# Altium footprint library Dual-In-Line Package.PcbLib: 124 footprints (part 4 of 8)
Each footprint in its own frame and in the unit in brackets; x right, y up, seen from the top. Pads: shape width x height; smd on the part's side, far side on the other; paste and mask are expansions set on the pad; w line width, h text height; cw(c..) or ccw(c..) is an arc to the next point about the centre after c.
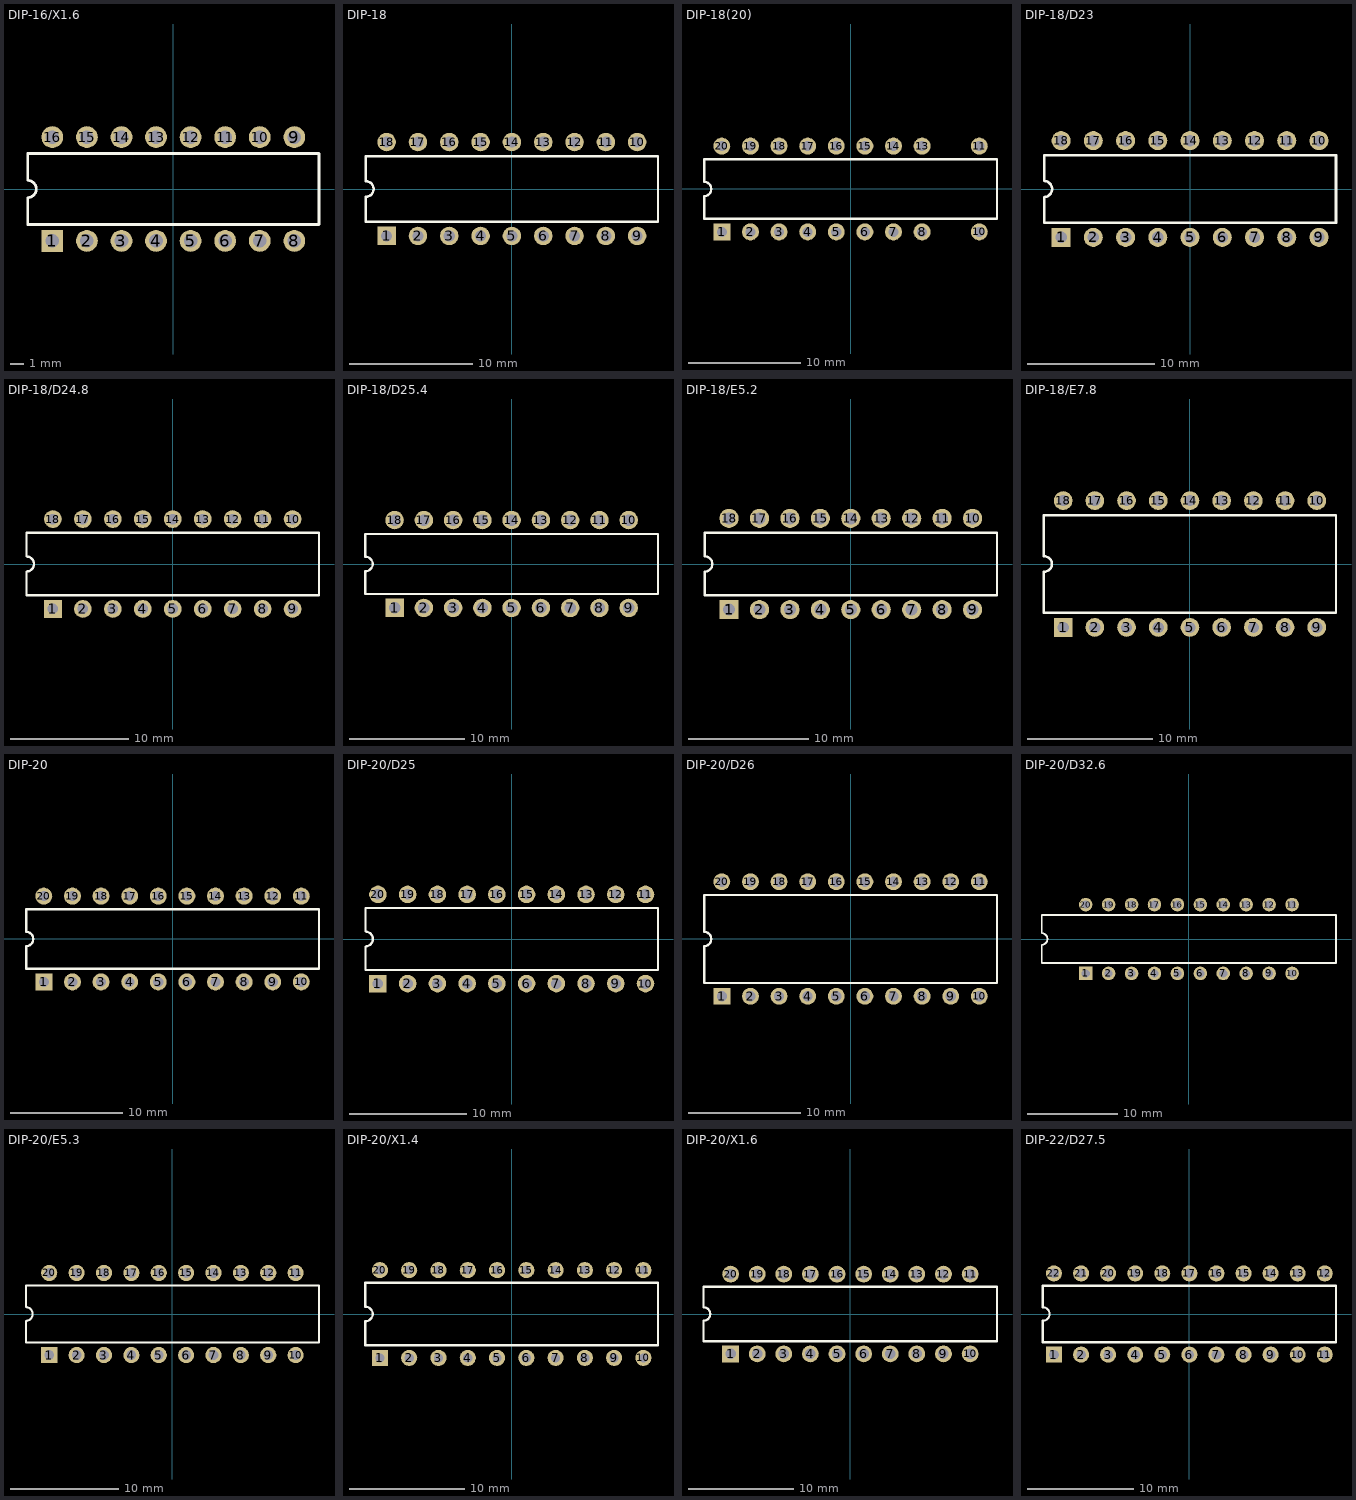
[diagram p3: the footprints below, top view; thin cyan lines are the x and y axes]

## DIP-16/X1.6 [mm]
pads (16):
  rect 1.6x1.6 hole 1: 1(-8.89,-3.81)
  round 1.6 hole 1: 2(-6.35,-3.81) 3(-3.81,-3.81) 4(-1.27,-3.81) 5(1.27,-3.81) 6(3.81,-3.81) 7(6.35,-3.81) 8(8.89,-3.81) 9(8.89,3.81) 10(6.35,3.81) 11(3.81,3.81) 12(1.27,3.81) 13(-1.27,3.81) 14(-3.81,3.81) 15(-6.35,3.81) 16(-8.89,3.81)
Top Overlay:
  lines w0.2: -10.7,-2.6 10.7,-2.6 10.7,2.6 -10.7,2.6 -10.7,0.635 cw(c-10.7,0) -10.7,-0.635 -10.7,-2.6

## DIP-18 [mm]
pads (18):
  rect 1.5x1.5 hole 0.9: 1(-10.16,-3.81)
  round 1.5 hole 0.9: 2(-7.62,-3.81) 3(-5.08,-3.81) 4(-2.54,-3.81) 5(0,-3.81) 6(2.54,-3.81) 7(5.08,-3.81) 8(7.62,-3.81) 9(10.16,-3.81) 10(10.16,3.81) 11(7.62,3.81) 12(5.08,3.81) 13(2.54,3.81) 14(0,3.81) 15(-2.54,3.81) 16(-5.08,3.81) 17(-7.62,3.81) 18(-10.16,3.81)
Top Overlay:
  lines w0.2: -11.85,-2.65 -11.85,-0.635 ccw(c-11.85,0) -11.85,0.635 -11.85,2.65 11.85,2.65 11.85,-2.65 -11.85,-2.65

## DIP-18(20) [mm]
pads (18):
  rect 1.5x1.5 hole 0.9: 1(-11.43,-3.81)
  round 1.5 hole 0.9: 2(-8.89,-3.81) 3(-6.35,-3.81) 4(-3.81,-3.81) 5(-1.27,-3.81) 6(1.27,-3.81) 7(3.81,-3.81) 8(6.35,-3.81) 10(11.43,-3.81) 11(11.43,3.81) 13(6.35,3.81) 14(3.81,3.81) 15(1.27,3.81) 16(-1.27,3.81) 17(-3.81,3.81) 18(-6.35,3.81) 19(-8.89,3.81) 20(-11.43,3.81)
Top Overlay:
  lines w0.2: -13,-2.65 -13,-0.635 ccw(c-13,0) -13,0.635 -13,2.65 13,2.65 13,-2.65 -13,-2.65

## DIP-18/D23 [mm]
pads (18):
  rect 1.5x1.5 hole 0.9: 1(-10.16,-3.81)
  round 1.5 hole 0.9: 2(-7.62,-3.81) 3(-5.08,-3.81) 4(-2.54,-3.81) 5(0,-3.81) 6(2.54,-3.81) 7(5.08,-3.81) 8(7.62,-3.81) 9(10.16,-3.81) 10(10.16,3.81) 11(7.62,3.81) 12(5.08,3.81) 13(2.54,3.81) 14(0,3.81) 15(-2.54,3.81) 16(-5.08,3.81) 17(-7.62,3.81) 18(-10.16,3.81)
Top Overlay:
  lines w0.2: -11.5,-2.65 -11.5,-0.635 ccw(c-11.5,0) -11.5,0.635 -11.5,2.65 11.5,2.65 11.5,-2.65 -11.5,-2.65

## DIP-18/D24.8 [mm]
pads (18):
  rect 1.5x1.5 hole 0.9: 1(-10.16,-3.81)
  round 1.5 hole 0.9: 2(-7.62,-3.81) 3(-5.08,-3.81) 4(-2.54,-3.81) 5(0,-3.81) 6(2.54,-3.81) 7(5.08,-3.81) 8(7.62,-3.81) 9(10.16,-3.81) 10(10.16,3.81) 11(7.62,3.81) 12(5.08,3.81) 13(2.54,3.81) 14(0,3.81) 15(-2.54,3.81) 16(-5.08,3.81) 17(-7.62,3.81) 18(-10.16,3.81)
Top Overlay:
  lines w0.2: -12.4,-2.65 -12.4,-0.635 ccw(c-12.4,0) -12.4,0.635 -12.4,2.65 12.4,2.65 12.4,-2.65 -12.4,-2.65

## DIP-18/D25.4 [mm]
pads (18):
  rect 1.6x1.6 hole 1: 1(-10.16,-3.81)
  round 1.6 hole 1: 2(-7.62,-3.81) 3(-5.08,-3.81) 4(-2.54,-3.81) 5(0,-3.81) 6(2.54,-3.81) 7(5.08,-3.81) 8(7.62,-3.81) 9(10.16,-3.81) 10(10.16,3.81) 11(7.62,3.81) 12(5.08,3.81) 13(2.54,3.81) 14(0,3.81) 15(-2.54,3.81) 16(-5.08,3.81) 17(-7.62,3.81) 18(-10.16,3.81)
Top Overlay:
  lines w0.2: -12.7,-2.6 -12.7,-0.635 ccw(c-12.7,0) -12.7,0.635 -12.7,2.6 12.7,2.6 12.7,-2.6 -12.7,-2.6

## DIP-18/E5.2 [mm]
pads (18):
  rect 1.6x1.6 hole 1: 1(-10.16,-3.81)
  round 1.6 hole 1: 2(-7.62,-3.81) 3(-5.08,-3.81) 4(-2.54,-3.81) 5(0,-3.81) 6(2.54,-3.81) 7(5.08,-3.81) 8(7.62,-3.81) 9(10.16,-3.81) 10(10.16,3.81) 11(7.62,3.81) 12(5.08,3.81) 13(2.54,3.81) 14(0,3.81) 15(-2.54,3.81) 16(-5.08,3.81) 17(-7.62,3.81) 18(-10.16,3.81)
Top Overlay:
  lines w0.2: -12.2,-2.6 -12.2,-0.635 ccw(c-12.2,0) -12.2,0.635 -12.2,2.6 12.2,2.6 12.2,-2.6 -12.2,-2.6

## DIP-18/E7.8 [mm]
pads (18):
  rect 1.5x1.5 hole 0.9: 1(-10.16,-5.08)
  round 1.5 hole 0.9: 2(-7.62,-5.08) 3(-5.08,-5.08) 4(-2.54,-5.08) 5(0,-5.08) 6(2.54,-5.08) 7(5.08,-5.08) 8(7.62,-5.08) 9(10.16,-5.08) 10(10.16,5.08) 11(7.62,5.08) 12(5.08,5.08) 13(2.54,5.08) 14(0,5.08) 15(-2.54,5.08) 16(-5.08,5.08) 17(-7.62,5.08) 18(-10.16,5.08)
Top Overlay:
  lines w0.2: -11.7,-3.9 11.7,-3.9 11.7,3.9 -11.7,3.9 -11.7,0.635 cw(c-11.7,0) -11.7,-0.635 -11.7,-3.9

## DIP-20 [mm]
pads (20):
  rect 1.5x1.5 hole 0.9: 1(-11.43,-3.81)
  round 1.5 hole 0.9: 2(-8.89,-3.81) 3(-6.35,-3.81) 4(-3.81,-3.81) 5(-1.27,-3.81) 6(1.27,-3.81) 7(3.81,-3.81) 8(6.35,-3.81) 9(8.89,-3.81) 10(11.43,-3.81) 11(11.43,3.81) 12(8.89,3.81) 13(6.35,3.81) 14(3.81,3.81) 15(1.27,3.81) 16(-1.27,3.81) 17(-3.81,3.81) 18(-6.35,3.81) 19(-8.89,3.81) 20(-11.43,3.81)
Top Overlay:
  lines w0.2: -13,-2.65 -13,-0.635 ccw(c-13,0) -13,0.635 -13,2.65 13,2.65 13,-2.65 -13,-2.65

## DIP-20/D25 [mm]
pads (20):
  rect 1.5x1.5 hole 0.9: 1(-11.43,-3.81)
  round 1.5 hole 0.9: 2(-8.89,-3.81) 3(-6.35,-3.81) 4(-3.81,-3.81) 5(-1.27,-3.81) 6(1.27,-3.81) 7(3.81,-3.81) 8(6.35,-3.81) 9(8.89,-3.81) 10(11.43,-3.81) 11(11.43,3.81) 12(8.89,3.81) 13(6.35,3.81) 14(3.81,3.81) 15(1.27,3.81) 16(-1.27,3.81) 17(-3.81,3.81) 18(-6.35,3.81) 19(-8.89,3.81) 20(-11.43,3.81)
Top Overlay:
  lines w0.2: -12.5,-2.65 -12.5,-0.635 ccw(c-12.5,0) -12.5,0.635 -12.5,2.65 12.5,2.65 12.5,-2.65 -12.5,-2.65

## DIP-20/D26 [mm]
pads (20):
  rect 1.5x1.5 hole 0.9: 1(-11.43,-5.08)
  round 1.5 hole 0.9: 2(-8.89,-5.08) 3(-6.35,-5.08) 4(-3.81,-5.08) 5(-1.27,-5.08) 6(1.27,-5.08) 7(3.81,-5.08) 8(6.35,-5.08) 9(8.89,-5.08) 10(11.43,-5.08) 11(11.43,5.08) 12(8.89,5.08) 13(6.35,5.08) 14(3.81,5.08) 15(1.27,5.08) 16(-1.27,5.08) 17(-3.81,5.08) 18(-6.35,5.08) 19(-8.89,5.08) 20(-11.43,5.08)
Top Overlay:
  lines w0.2: -13,-3.9 13,-3.9 13,3.9 -13,3.9 -13,0.635 cw(c-13,0) -13,-0.635 -13,-3.9

## DIP-20/D32.6 [mm]
pads (20):
  rect 1.5x1.5 hole 0.9: 1(-11.43,-3.81)
  round 1.5 hole 0.9: 2(-8.89,-3.81) 3(-6.35,-3.81) 4(-3.81,-3.81) 5(-1.27,-3.81) 6(1.27,-3.81) 7(3.81,-3.81) 8(6.35,-3.81) 9(8.89,-3.81) 10(11.43,-3.81) 11(11.43,3.81) 12(8.89,3.81) 13(6.35,3.81) 14(3.81,3.81) 15(1.27,3.81) 16(-1.27,3.81) 17(-3.81,3.81) 18(-6.35,3.81) 19(-8.89,3.81) 20(-11.43,3.81)
Top Overlay:
  lines w0.2: -16.3,-2.65 -16.3,-0.635 ccw(c-16.3,0) -16.3,0.635 -16.3,2.65 16.3,2.65 16.3,-2.65 -16.3,-2.65

## DIP-20/E5.3 [mm]
pads (20):
  rect 1.5x1.5 hole 0.9: 1(-11.43,-3.81)
  round 1.5 hole 0.9: 2(-8.89,-3.81) 3(-6.35,-3.81) 4(-3.81,-3.81) 5(-1.27,-3.81) 6(1.27,-3.81) 7(3.81,-3.81) 8(6.35,-3.81) 9(8.89,-3.81) 10(11.43,-3.81) 11(11.43,3.81) 12(8.89,3.81) 13(6.35,3.81) 14(3.81,3.81) 15(1.27,3.81) 16(-1.27,3.81) 17(-3.81,3.81) 18(-6.35,3.81) 19(-8.89,3.81) 20(-11.43,3.81)
Top Overlay:
  lines w0.2: -13.6,-2.65 -13.6,-0.635 ccw(c-13.6,0) -13.6,0.635 -13.6,2.65 13.6,2.65 13.6,-2.65 -13.6,-2.65

## DIP-20/X1.4 [mm]
pads (20):
  rect 1.4x1.4 hole 0.8: 1(-11.43,-3.81)
  round 1.4 hole 0.8: 2(-8.89,-3.81) 3(-6.35,-3.81) 4(-3.81,-3.81) 5(-1.27,-3.81) 6(1.27,-3.81) 7(3.81,-3.81) 8(6.35,-3.81) 9(8.89,-3.81) 10(11.43,-3.81) 11(11.43,3.81) 12(8.89,3.81) 13(6.35,3.81) 14(3.81,3.81) 15(1.27,3.81) 16(-1.27,3.81) 17(-3.81,3.81) 18(-6.35,3.81) 19(-8.89,3.81) 20(-11.43,3.81)
Top Overlay:
  lines w0.2: -12.7,-2.7 12.7,-2.7 12.7,2.7 -12.7,2.7 -12.7,0.635 cw(c-12.7,0) -12.7,-0.635 -12.7,-2.7

## DIP-20/X1.6 [mm]
pads (20):
  rect 1.6x1.6 hole 1: 1(-11.43,-3.81)
  round 1.6 hole 1: 2(-8.89,-3.81) 3(-6.35,-3.81) 4(-3.81,-3.81) 5(-1.27,-3.81) 6(1.27,-3.81) 7(3.81,-3.81) 8(6.35,-3.81) 9(8.89,-3.81) 10(11.43,-3.81) 11(11.43,3.81) 12(8.89,3.81) 13(6.35,3.81) 14(3.81,3.81) 15(1.27,3.81) 16(-1.27,3.81) 17(-3.81,3.81) 18(-6.35,3.81) 19(-8.89,3.81) 20(-11.43,3.81)
Top Overlay:
  lines w0.2: -14,-2.6 -14,-0.635 ccw(c-14,0) -14,0.635 -14,2.6 14,2.6 14,-2.6 -14,-2.6

## DIP-22/D27.5 [mm]
pads (22):
  rect 1.5x1.5 hole 0.9: 1(-12.7,-3.81)
  round 1.5 hole 0.9: 2(-10.16,-3.81) 3(-7.62,-3.81) 4(-5.08,-3.81) 5(-2.54,-3.81) 6(0,-3.81) 7(2.54,-3.81) 8(5.08,-3.81) 9(7.62,-3.81) 10(10.16,-3.81) 11(12.7,-3.81) 12(12.7,3.81) 13(10.16,3.81) 14(7.62,3.81) 15(5.08,3.81) 16(2.54,3.81) 17(0,3.81) 18(-2.54,3.81) 19(-5.08,3.81) 20(-7.62,3.81) 21(-10.16,3.81) 22(-12.7,3.81)
Top Overlay:
  lines w0.2: -13.75,-2.65 -13.75,-0.635 ccw(c-13.75,0) -13.75,0.635 -13.75,2.65 13.75,2.65 13.75,-2.65 -13.75,-2.65